# Altium schematic symbol library COF.SCHLIB: 12 symbols
Pins are listed as number, name and electrical type; pins without a type are passive.

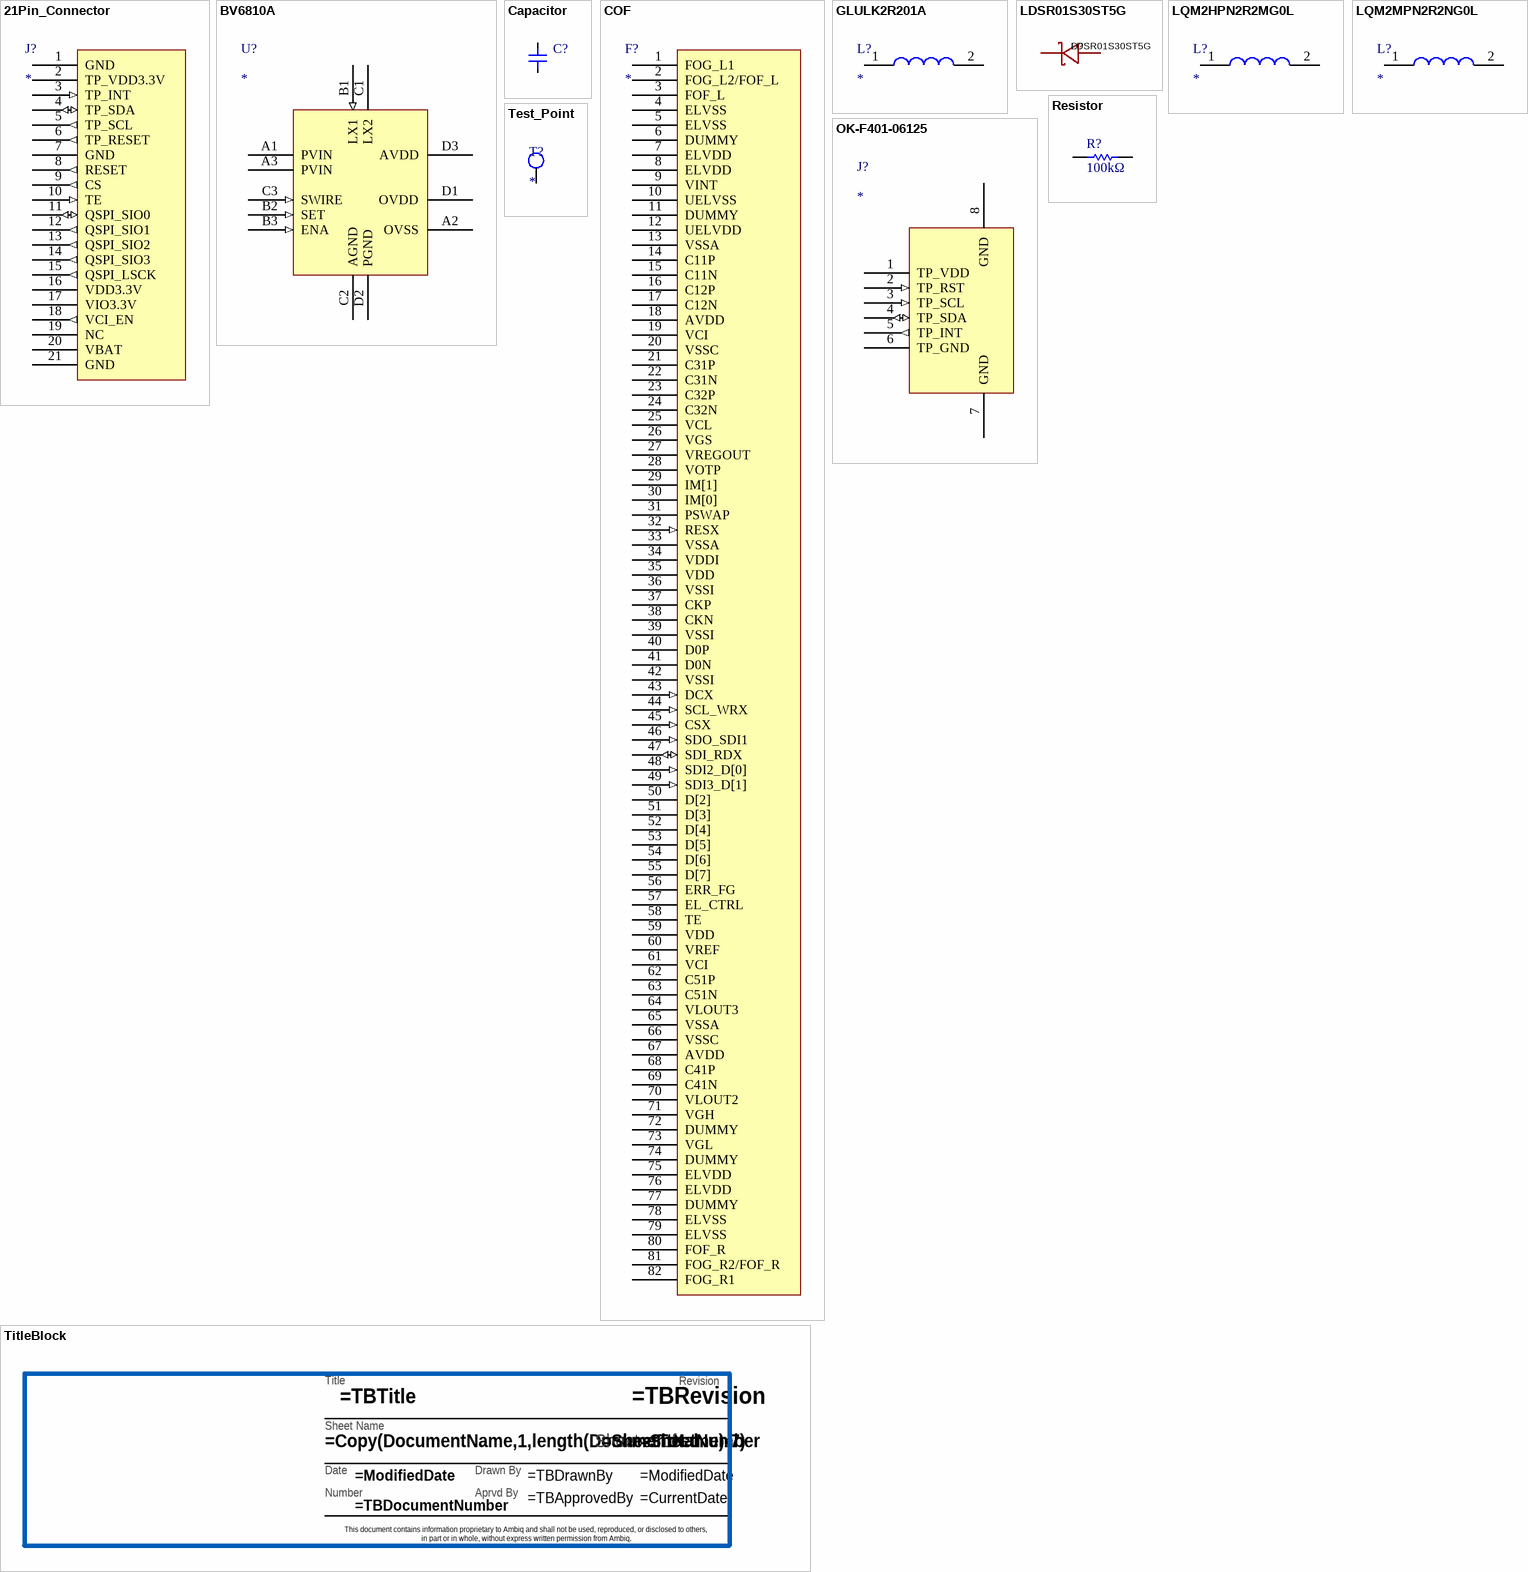
[diagram p0: symbols 21Pin_Connector to TitleBlock]

## 21Pin_Connector
designator J?
footprint FPC Connector
pins: 1 GND (power), 2 TP_VDD3.3V (power), 3 TP_INT (in), 4 TP_SDA (io), 5 TP_SCL (out), 6 TP_RESET (out), 7 GND (power), 8 RESET (out), 9 CS (out), 10 TE (in), 11 QSPI_SIO0 (io), 12 QSPI_SIO1 (out), 13 QSPI_SIO2 (out), 14 QSPI_SIO3 (out), 15 QSPI_LSCK (out), 16 VDD3.3V (power), 17 VIO3.3V (power), 18 VCI_EN (out), 19 NC, 20 VBAT (power), 21 GND (power)

## BV6810A
designator U?
footprint WLCSP-12_L1.7-W1.5-R4-C3-P0.40-TL-1
pins: A1 PVIN (power), A2 OVSS (power), A3 PVIN (power), B1 LX1 (in), B2 SET (in), B3 ENA (in), C1 LX2 (hiz), C2 AGND (power), C3 SWIRE (in), D1 OVDD (power), D2 PGND (power), D3 AVDD (power)

## Capacitor
designator C?
NONE; Manufacturer: Murata; AMBIQ PN: GRM033R61A105ME15D; Capacitance: 1uF; Tolerance: 20%; Voltage Rating: 10V; Dielectric: X5R; Supplier 1: Arrow Electronics; Supplier Part Number 1: GRM033R61A105ME15D; Manufacturer Part Number: GRM033R61A105ME15D; RoHS: Yes; Category: Ceramic Capacitors; Stock 1: 387591; Pricing 1: 1=0.35440, 10=0.26860, 25=0.26600, 50=0.24050, 100=0.18220, 250=0.18020, 500=0.17800, 1000=0.12040, 3000=0.11920, 6000=0.08160,; Mount: Surface Mount; Case/Package: 0201; Case Code (Metric): 0603; Case Code (Imperial): 0201; Min Operating Temperature: -55°C; Max Operating Temperature: 85°C; Packaging: Tape and Reel; Voltage Rating (DC): 10V; Length: 0.024inch; Width: 0.012inch; Thickness: 0.015inch; RoHS Compliant: Yes; ComponentLink1URL: http://search.murata.co.jp/Ceramy/image/img/A01X/G101/ENG/GRM033R61A105ME15-01.pdf?src-supplier=Digi-Key; ComponentLink1Description: http://search.murata.co.jp/Ceramy/image/img/A01X/G101/ENG/GRM033R61A105ME15-01.pdf?src-supplier=Digi-Key
footprint CAPC0603X33N
footprint CAPC1005X57N
pins: 1, 2

## COF
designator F?
footprint COF Connector
pins: 1 FOG_L1 (hiz), 2 FOG_L2/FOF_L (hiz), 3 FOF_L (hiz), 4 ELVSS (power), 5 ELVSS (power), 6 DUMMY (hiz), 7 ELVDD (power), 8 ELVDD (power), 9 VINT (hiz), 10 UELVSS (power), 11 DUMMY (hiz), 12 UELVDD (power), 13 VSSA (power), 14 C11P (hiz), 15 C11N (hiz), 16 C12P (hiz), 17 C12N (hiz), 18 AVDD (power), 19 VCI (power), 20 VSSC (power), 21 C31P (hiz), 22 C31N (hiz), 23 C32P (hiz), 24 C32N (hiz), 25 VCL (power), 26 VGS (power), 27 VREGOUT (power), 28 VOTP (power), 29 IM[1], 30 IM[0], 31 PSWAP, 32 RESX (in), 33 VSSA (power), 34 VDDI (power), 35 VDD (power), 36 VSSI (power), 37 CKP, 38 CKN, 39 VSSI (power), 40 D0P, 41 D0N, 42 VSSI (power), 43 DCX (in), 44 SCL_WRX (in), 45 CSX (in), 46 SDO_SDI1 (in), 47 SDI_RDX (io), 48 SDI2_D[0] (in), 49 SDI3_D[1] (in), 50 D[2] (hiz), 51 D[3] (hiz), 52 D[4] (hiz), 53 D[5] (hiz), 54 D[6] (hiz), 55 D[7] (hiz), 56 ERR_FG (hiz), 57 EL_CTRL (hiz), 58 TE (hiz), 59 VDD (power), 60 VREF (power), 61 VCI (power), 62 C51P (hiz), 63 C51N (hiz), 64 VLOUT3 (power), 65 VSSA (power), 66 VSSC (power), 67 AVDD (power), 68 C41P (hiz), 69 C41N (hiz), 70 VLOUT2 (power), 71 VGH (hiz), 72 DUMMY (hiz), 73 VGL (power), 74 DUMMY (hiz), 75 ELVDD (power), 76 ELVDD (power), 77 DUMMY (hiz), 78 ELVSS (power), 79 ELVSS (power), 80 FOF_R (hiz), 81 FOG_R2/FOF_R (hiz), 82 FOG_R1 (hiz)

## GLULK2R201A
designator L?
Inductor; Manufacturer_Name: Murata Electronics; Manufacturer_Part_Number: LQM2MPN2R2NG0L; Datasheet Link: https://psearch.en.murata.com/inductor/product/LQM2MPN2R2NG0%23.html; Height: 1mm; Mouser Part Number: 81-LQM2MPN2R2NG0L; Mouser Price/Stock: https://www.mouser.co.uk/ProductDetail/Murata-Electronics/LQM2MPN2R2NG0L?qs=%2F%252BYoplLUB5hok3HfggX2sA%3D%3D; Arrow Part Number: LQM2MPN2R2NG0L; Arrow Price/Stock: https://www.arrow.com/en/products/lqm2mpn2r2ng0l/murata-manufacturing?region=nac
footprint MPL2012S2R2MDT
pins: 1, 2

## LDSR01S30ST5G
designator D?
Manufacturer: LRC(乐山无线电); Add into BOM: yes; Forward Voltage (Vf@If): 0.62V; Reverse Voltage (Vr): 30V; Average Rectified Current (Io): 0.1A; Reverse Leakage Current (Ir): 0.35uA; Symbol: LDSR01S30ST5G; Device: LDSR01S30ST5G; LCSC Part Name: 电压:30V 电流:100mA; Supplier Part: C383209; Manufacturer Part: LDSR01S30ST5G; Supplier Footprint: DFN0603; JLCPCB Part Class: Extended Part; Datasheet: https://atta.szlcsc.com/upload/public/pdf/source/20190402/C383209_E6CC6AB1DDDAFF419D608D9457880F70.pdf; Supplier: LCSC; Convert to PCB: yes
footprint DFN0603-D_L0.6-W0.3-P0.34-RD
pins: 1 C, 2 A

## LQM2HPN2R2MG0L
designator L?
Inductor; Manufacturer_Name: Murata Electronics; Manufacturer_Part_Number: LQM2HPN2R2MG0L; Datasheet Link: https://search.murata.co.jp/Ceramy/image/img/P02/JELF243B-0019.pdf; Height: 1mm; Mouser Part Number: 81-LQM2HPN2R2MG0L; Mouser Price/Stock: https://www.mouser.co.uk/ProductDetail/Murata-Electronics/LQM2HPN2R2MG0L?qs=%2F%252BYoplLUB5jZYKbM2SoJpQ%3D%3D; Arrow Part Number: LQM2HPN2R2MG0L; Arrow Price/Stock: https://www.arrow.com/en/products/lqm2hpn2r2mg0l/murata-manufacturing?region=nac
footprint INDC2520X100N
pins: 1, 2

## LQM2MPN2R2NG0L
designator L?
Inductor; Manufacturer_Name: Murata Electronics; Manufacturer_Part_Number: LQM2MPN2R2NG0L; Datasheet Link: https://psearch.en.murata.com/inductor/product/LQM2MPN2R2NG0%23.html; Height: 1mm; Mouser Part Number: 81-LQM2MPN2R2NG0L; Mouser Price/Stock: https://www.mouser.co.uk/ProductDetail/Murata-Electronics/LQM2MPN2R2NG0L?qs=%2F%252BYoplLUB5hok3HfggX2sA%3D%3D; Arrow Part Number: LQM2MPN2R2NG0L; Arrow Price/Stock: https://www.arrow.com/en/products/lqm2mpn2r2ng0l/murata-manufacturing?region=nac
footprint LQM2MPN1R0NG0L
pins: 1, 2

## OK-F401-06125
designator J?
footprint FFC-SMD_6P-P0.50_FH34SRJ-6S-0.5SH
pins: 1 TP_VDD (power), 2 TP_RST (in), 3 TP_SCL (in), 4 TP_SDA (io), 5 TP_INT (out), 6 TP_GND (power), 7 GND (power), 8 GND (power)

## Resistor
designator R?, comment 100kΩ
NONE; Manufacturer: Vishay Dale; AMBIQ PN: CRCW0201100KJNED; Resistance: 100kR; Power Rating: 50mW; Voltage Rating: 30V; Temperature Coefficient: 200ppm/°C; Tolerance: 5%; Supplier 1: Arrow Electronics; Supplier Part Number 1: CRCW0201100KJNED; Manufacturer Part Number: CRCW0201100KJNED; RoHS: Yes; Category: Chip SMD Resistors; Stock 1: 9000; Pricing 1: 1=0.04320, 10=0.03110, 25=0.01910, 100=0.01380, 250=0.01370, 500=0.01360, 1000=0.00820, 3000=0.00460 (USD); Case/Package: 0201; Weight: 6E-06oz; Case Code (Metric): 0603; Case Code (Imperial): 0201; Contact Plating: Tin; Min Operating Temperature: -55°C; Max Operating Temperature: 155°C; Package Quantity: 1; Packaging: Tape and Reel; Resistor Type: Thick Film; Number of Terminations: 2; Max Power Dissipation: 50mW; Voltage Rating (DC): 30V; Length: 0.6mm; Width: 0.3mm; Height: 0.011inch; Depth: 0.3mm; Radiation Hardening: No; REACH SVHC: Unknown; Military Standard: Not; Lead Free: Lead Free; RoHS Compliant: Yes; ComponentLink1URL: https://datasheet.ciiva.com/2498/crcw0201e3-2498780.pdf?src-supplier=Digi-Key; ComponentLink1Description: https://datasheet.ciiva.com/2498/crcw0201e3-2498780.pdf?src-supplier=Digi-Key; ComponentLink2URL: https://datasheet.ciiva.com/2498/crcw0201e3-2498781.pdf?src-supplier=Digi-Key; ComponentLink2Description: https://datasheet.ciiva.com/2498/crcw0201e3-2498781.pdf?src-supplier=Digi-Key; ComponentLink3URL: https://datasheet.ciiva.com/2498/crcw0201e3-2498779.pdf?src-supplier=Digi-Key; Number of Pins: 2
footprint R0201
pins: 1, 2
1 alternate drawing of the same symbol

## Test_Point
designator T?
footprint TP-C045-PI
pins: 1

## TitleBlock
designator ??  (value not drawn)  (graphical)
Title block for Ambiq Schematics. Please have the following parameters entered in Project>Project Options>Parameters: / TBTitle / TBDocumentNumber / TBRevision / TBDrawnBy / TBApprovedBy; AMBIQ PN: TitleBlock
text: Revision; Title; Sheet Name; Sheet; of; Date; Drawn By; Number; Aprvd By; This document contains information proprietary to Ambiq and shall not be used, reproduced, or disclosed to others, / in part or in whole, without express written permission from Ambiq.